# EAGLE library part TMC222-SI (library trinamic)
TRINAMIC Microstepping stepper motor controller/driver with IIC interface Information given in this library is believed to be accurate and reliable. However no warranty is given for its correctness. Datasheet for TMC222 <http://www.trinamic.com/tmc/media/Downloads/integrated_circuits/Tmc222/TMC222_datasheet.pdf> Description Microstepping stepper motor controller/driver with IIC interface The TMC222 is a combined micro-stepping stepper motor motion controller and driver with RAM and OTP memory. The RAM or OTP memory is used to store motor parameters and configuration settings.The TMC222 allows up to four bit of microstepping and a coil current of up to 800 mA. After initialization it performs all time critical tasks autonomously based on target positions and velocity parameters. Communications to a host takes place via a two wire serial interface. Together with an inexpensive microcontroller the TMC222 forms a complete motion control system. Specifications Motor driver 2-phase bipolar stepper motor controller+driver Controls one stepper motor with four bit microstepping Programmable Coil current up to 800 mA Supply voltage range operating range 8V ... 29V Fixed frequency PWM current control with automatic selection of fast and slow decay mode Full step frequencies up to 1 kHz High temperature, open circuit, short, over-current and under-voltage diagnostics Motion controller Internal 16-bit wide position counter Configurable speed and acceleration settings Build-in ramp generator for autonomous positioning and speed control On-the-fly alteration of target position Reference switch input available for read out Two wire serial interface Transfer rates up to 350 kbps Diagnostics and status information as well as motion parameters accessable Field-programmable node addresses (32)
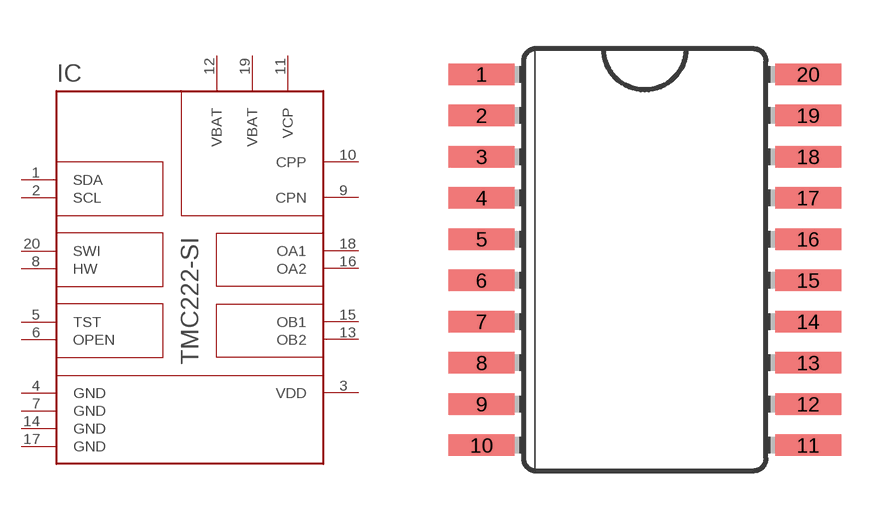
[diagram p11: symbol with the pads of SOIC20; footprint SOIC20]

Designator prefix IC

## TMC222-SI  [SOIC20]
1  SDA
2  SCL  in
3  VDD  in
4  GND  in
5  TST  in
6  OPEN  nc
7  GND  in
8  HW  in
9  CPN  in
10  CPP  in
11  VCP  in
12  VBAT  in
13  OB2  out
14  GND  in
15  OB1  out
16  OA2  out
17  GND  in
18  OA1  out
19  VBAT  in
20  SWI  in

## Footprint SOIC20 (pad centres in mm)
smd 2.032 x 0.66: 1 -5.029,5.715; 2 -5.029,4.445; 3 -5.029,3.175; 4 -5.029,1.905; 5 -5.029,0.635; 6 -5.029,-0.635; 7 -5.029,-1.905; 8 -5.029,-3.175; 9 -5.029,-4.445; 10 -5.029,-5.715; 11 5.029,-5.715; 12 5.029,-4.445; 13 5.029,-3.175; 14 5.029,-1.905; 15 5.029,-0.635; 16 5.029,0.635; 17 5.029,1.905; 18 5.029,3.175; 19 5.029,4.445; 20 5.029,5.715